# EAGLE library part ATTINY1634 (library bt_avr)
ATtiny1634 ATtiny1634 is a low-power CMOS 8-bit microcontrollers based on the AVR enhanced RISC architecture. By executing powerful instructions in a single clock cycle, the ATtiny1634 achieves throughputs approaching 1 MIPS per MHz allowing the system designer to optimize power consumption versus processing speed. datasheet_summary.pdf <http://www.atmel.com/Images/Atmel-8303-8-bit-AVR-Microcontroller-tinyAVR-ATtiny1634_Datasheet_summary.pdf>
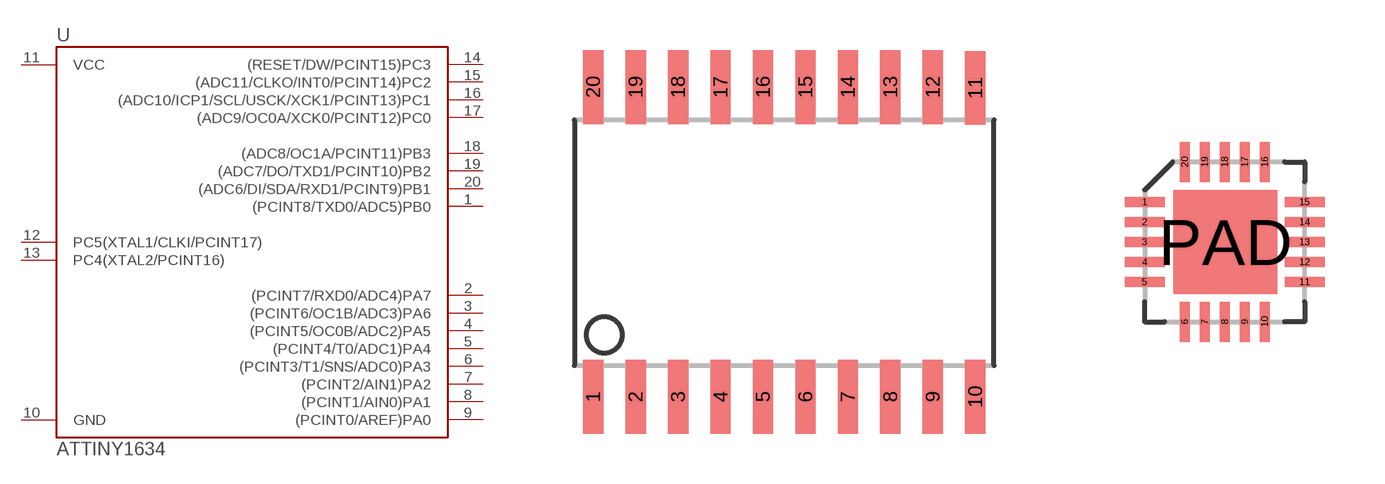
[diagram p8: symbol with the pads of SOIC20; footprints SOIC20, 20MLF_0.5]

Designator prefix U

## ATTINY1634-SU  [SOIC20]
1  (PCINT8/TXD0/ADC5)PB0
2  (PCINT7/RXD0/ADC4)PA7
3  (PCINT6/OC1B/ADC3)PA6
4  (PCINT5/OC0B/ADC2)PA5
5  (PCINT4/T0/ADC1)PA4
6  (PCINT3/T1/SNS/ADC0)PA3
7  (PCINT2/AIN1)PA2
8  (PCINT1/AIN0)PA1
9  (PCINT0/AREF)PA0
10  GND  pwr
11  VCC  pwr
12  PC5(XTAL1/CLKI/PCINT17)
13  PC4(XTAL2/PCINT16)
14  (RESET/DW/PCINT15)PC3
15  (ADC11/CLKO/INT0/PCINT14)PC2
16  (ADC10/ICP1/SCL/USCK/XCK1/PCINT13)PC1
17  (ADC9/OC0A/XCK0/PCINT12)PC0
18  (ADC8/OC1A/PCINT11)PB3
19  (ADC7/DO/TXD1/PCINT10)PB2
20  (ADC6/DI/SDA/RXD1/PCINT9)PB1

## ATTINY1634  [20MLF_0.5]

## Footprint SOIC20 (pad centres in mm)
Small Outline Package, large
smd 0.61 x 2.21: 1 -5.715,-4.636; 2 -4.445,-4.636; 3 -3.175,-4.636; 4 -1.905,-4.636; 5 -0.635,-4.636; 6 0.635,-4.636; 7 1.905,-4.636; 8 3.175,-4.636; 9 4.445,-4.636; 10 5.715,-4.636; 11 5.715,4.61; 12 4.445,4.636; 13 3.175,4.636; 14 1.905,4.636; 15 0.635,4.636; 16 -0.635,4.636; 17 -1.905,4.636; 18 -3.175,4.636; 19 -4.445,4.636; 20 -5.715,4.636

## Footprint 20MLF_0.5 (pad centres in mm)
smd 1 x 0.25: 1 0,3; 2 0,2.5; 3 0,2; 4 0,1.5; 5 0,1; 11 4,1; 12 4,1.5; 13 4,2; 14 4,2.5; 15 4,3
smd 0.25 x 1: 6 1,0; 7 1.5,0; 8 2,0; 9 2.5,0; 10 3,0; 16 3,4; 17 2.5,4; 18 2,4; 19 1.5,4; 20 1,4
smd 2.6 x 2.6: PAD 2.02,1.99